# Altium footprint library mbed LPC1768.PcbLib: 1 footprints
Each footprint in its own frame and in the unit in brackets; x right, y up, seen from the top. Pads: shape width x height; smd on the part's side, far side on the other; paste and mask are expansions set on the pad; w line width, h text height; cw(c..) or ccw(c..) is an arc to the next point about the centre after c.
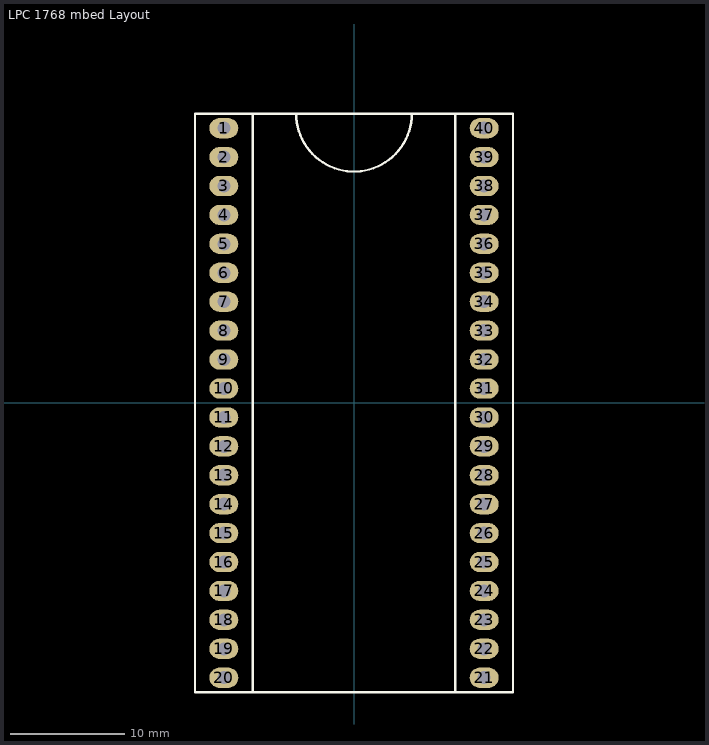
[diagram p0: the footprint, top view; thin cyan lines are the x and y axes]

## LPC 1768 mbed Layout [mil]
pads (40):
  oval 100x70 hole 45: 1(-450,950) 2(-450,850) 3(-450,750) 4(-450,650) 5(-450,550) 6(-450,450) 7(-450,350) 8(-450,250) 9(-450,150) 10(-450,50) 11(-450,-50) 12(-450,-150) 13(-450,-250) 14(-450,-350) 15(-450,-450) 16(-450,-550) 17(-450,-650) 18(-450,-750) 19(-450,-850) 20(-450,-950) 21(450,-950) 22(450,-850) 23(450,-750) 24(450,-650) 25(450,-550) 26(450,-450) 27(450,-350) 28(450,-250) 29(450,-150) 30(450,-50) 31(450,50) 32(450,150) 33(450,250) 34(450,350) 35(450,450) 36(450,550) 37(450,650) 38(450,750) 39(450,850) 40(450,950)
Top Overlay:
  lines w7.87: -350,-1000 -350,1000 ; -200,1000 ccw(c0,1000) 200,1000 ; 350,-1000 350,1000 ; -550,-1000 550,-1000 550,1000 -550,1000 -550,-1000
3D body: height 240, standoff 0, extent -545,-990 -360,995
3D body: height 240, standoff 0, extent 360,-985 545,1000
3D body: height 260, standoff 240, extent -545,-990 545,995